# Altium schematic symbol library J-USB4125-GF-A.SchLib: 1 symbol
Pins are listed as number, name and electrical type; pins without a type are passive.

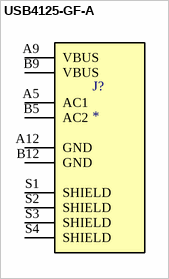
[diagram p0: symbol USB4125-GF-A]

## USB4125-GF-A
designator J?
USB Connector, 6 Contact(s), Male, Right Angle, Surface Mount Terminal, Locking, Receptacle; Manufacturer: Global Connector Technology; Manufacturer Part Number: USB4125-GF-A; MP: USB4125-GF-A_REVA2; Contact Resistance: 50mΩ; Current Rating: 4.25A; Dielectric Material: Liquid Crystal Polymer; Insulation Resistance: 100MΩ; Number of Ports: 1; Package: None; Availability: Unavailable; Value: *; Price: None; Supplier: DigiKey; Supplier Part Number: 2073-USB4125-GF-ACT-ND; RoHS: Compliant; Category: USB Connectors; Stock: 22186; Pricing: 1=0,59, 10=0,505, 25=0,4736, 50=0,451, 100=0,4293, 250=0,4024, 500=0,38318 (USD); China RoHS: Compliant; Contact Gender: Male; Gender: Receptacle; Lifecycle Status: Production; Max Operating Temperature: 85°C; Min Operating Temperature: -30°C; Pins: 6; Number of Rows: 1; Orientation: Horizontal; REACH SVHC: Yes; Shell Finish: Nickel; Shell Material: Stainless Steel; Terminal Pitch: 1mm; ComponentLink1URL: https://datasheet.octopart.com:443/USB4125-GF-A-Global-Connector-Technology-datasheet-166929326.pdf?src-supplier=SOS+electronic; ComponentLink1Description: https://datasheet.octopart.com:443/USB4125-GF-A-Global-Connector-Technology-datasheet-166929326.pdf?src-supplier=SOS+electronic; ComponentLink2URL: https://datasheet.octopart.com:443/USB4125-GF-A-GCT-datasheet-188869080.pdf?src-supplier=TME; ComponentLink2Description: https://datasheet.octopart.com:443/USB4125-GF-A-GCT-datasheet-188869080.pdf?src-supplier=TME; ComponentLink3URL: https://datasheet.octopart.com:443/USB4125-GF-A-GCT-datasheet-188869081.pdf?src-supplier=TME; ComponentLink3Description: https://datasheet.octopart.com:443/USB4125-GF-A-GCT-datasheet-188869081.pdf?src-supplier=TME; ComponentLink4URL: https://datasheet.octopart.com:443/USB4125-GF-A-GCT-datasheet-166929327.pdf?src-supplier=TME; ComponentLink4Description: https://datasheet.octopart.com:443/USB4125-GF-A-GCT-datasheet-166929327.pdf?src-supplier=TME; ComponentLink5URL: https://datasheet.octopart.com:443/USB4125-GF-A-Global-Connector-Technology-datasheet-148864632.pdf?src-supplier=Future+Electronics; ComponentLink5Description: https://datasheet.octopart.com:443/USB4125-GF-A-Global-Connector-Technology-datasheet-148864632.pdf?src-supplier=Future+Electronics; Supplier 1: DigiKey; Supplier Part Number 1: 2073-USB4125-GF-ACT-ND
footprint GCT_USB4125-GF-A_REVA2
pins: A5 AC1, A9 VBUS (power), A12 GND (power), B5 AC2, B9 VBUS (power), B12 GND (power), S1 SHIELD, S2 SHIELD, S3 SHIELD, S4 SHIELD